# EAGLE library part IRF9335 (library IC)
Power Mos, 30V at 5.4V, P-MOS. Digikey#:IRF9335TRPBFCT-ND
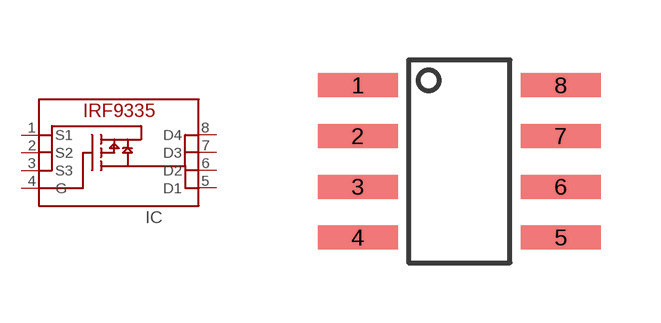
[diagram p202: symbol with the pads of SO8; footprint SO8]

Designator prefix IC

## IRF9335-SO8  [SO8]
1  S1
2  S2
3  S3
4  G
5  D1
6  D2
7  D3
8  D4

## Footprint SO8 (pad centres in mm)
smd 2 x 0.6: 1 -2.54,1.905; 2 -2.54,0.635; 3 -2.54,-0.635; 4 -2.54,-1.905; 5 2.54,-1.905; 6 2.54,-0.635; 7 2.54,0.635; 8 2.54,1.905